# EAGLE library part CC3200 (library texas)
SOC WIFI SimpleLink Wi-Fi and Internet-of-Things Solution, a Single-Chip Wireless MCU
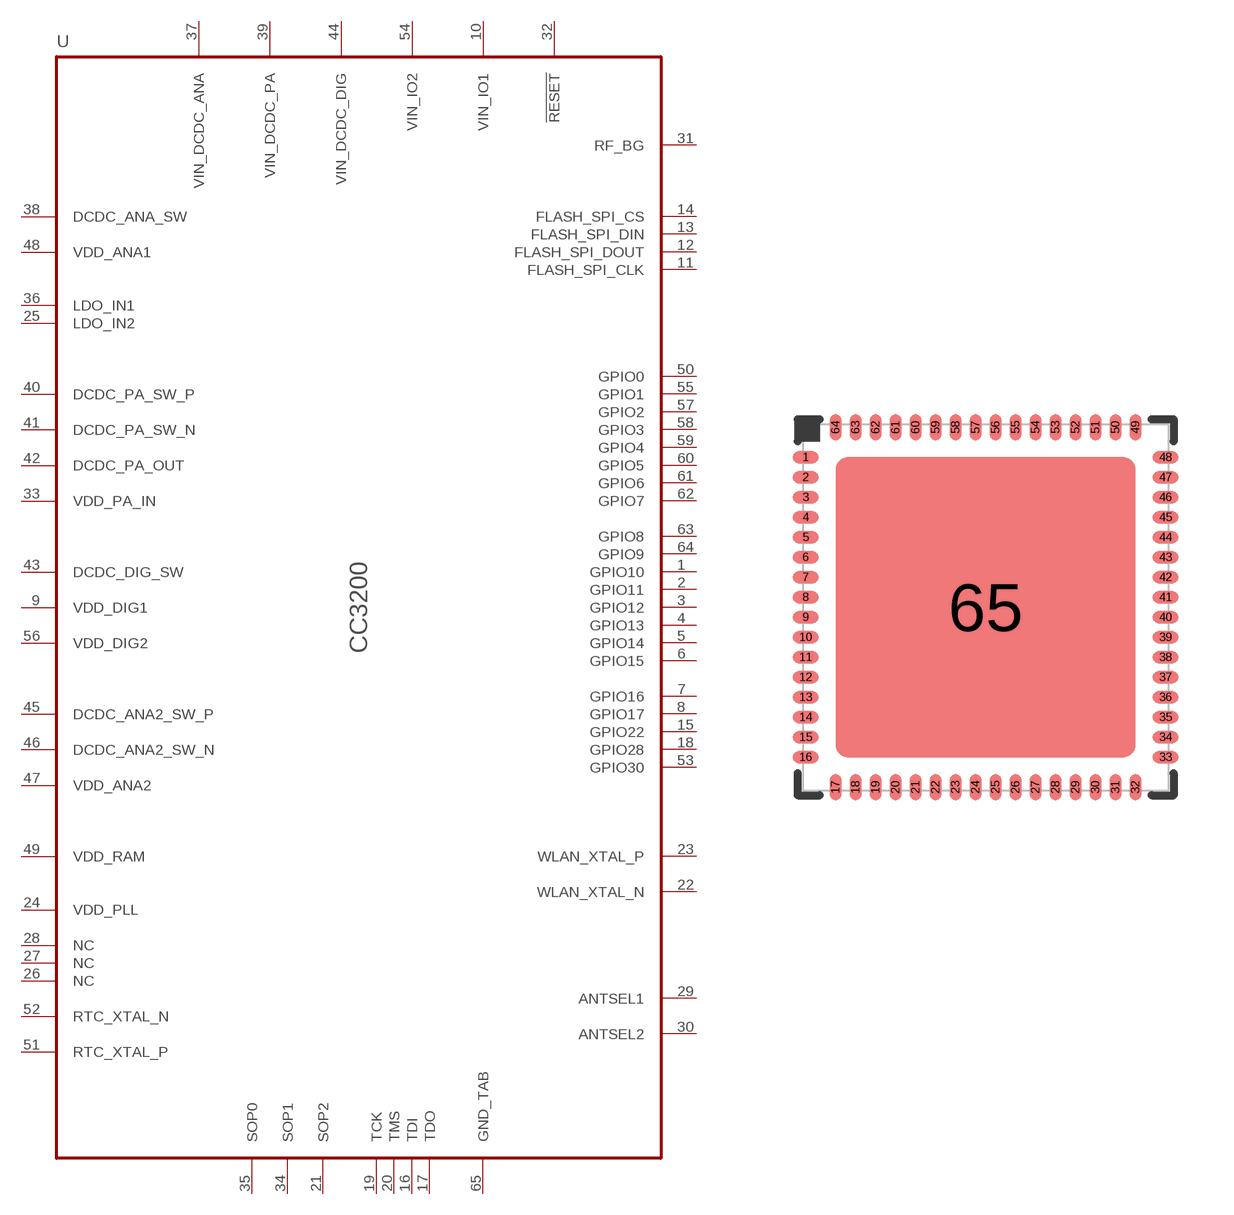
[diagram p111: symbol with the pads of VQFN64; footprint VQFN64]

Designator prefix U

## CC3200  [VQFN64]
1  GPIO10
2  GPIO11
3  GPIO12
4  GPIO13
5  GPIO14
6  GPIO15
7  GPIO16
8  GPIO17
9  VDD_DIG1  pas
10  VIN_IO1  in
11  FLASH_SPI_CLK  out
12  FLASH_SPI_DOUT  out
13  FLASH_SPI_DIN  in
14  FLASH_SPI_CS  out
15  GPIO22
16  TDI
17  TDO
18  GPIO28
19  TCK
20  TMS
21  SOP2  out
22  WLAN_XTAL_N
23  WLAN_XTAL_P
24  VDD_PLL  pas
25  LDO_IN2  in
26  NC  nc
27  NC  nc
28  NC  nc
29  ANTSEL1  out
30  ANTSEL2  out
31  RF_BG  pas
32  !RESET!  in
33  VDD_PA_IN  in
34  SOP1
35  SOP0
36  LDO_IN1  in
37  VIN_DCDC_ANA  in
38  DCDC_ANA_SW
39  VIN_DCDC_PA
40  DCDC_PA_SW_P  pas
41  DCDC_PA_SW_N  pas
42  DCDC_PA_OUT  out
43  DCDC_DIG_SW  pas
44  VIN_DCDC_DIG  in
45  DCDC_ANA2_SW_P  pas
46  DCDC_ANA2_SW_N  pas
47  VDD_ANA2  pas
48  VDD_ANA1  pas
49  VDD_RAM  pas
50  GPIO0
51  RTC_XTAL_P  pas
52  RTC_XTAL_N  pas
53  GPIO30
54  VIN_IO2  in
55  GPIO1
56  VDD_DIG2  hiz
57  GPIO2
58  GPIO3
59  GPIO4
60  GPIO5
61  GPIO6
62  GPIO7
63  GPIO8
64  GPIO9
65  GND_TAB  pas

## Footprint VQFN64 (pad centres in mm)
VQFN4 Quad Flat Package, 0.50 mm Pitch
smd 0.65 x 0.3: 1 -4.5,3.75; 2 -4.5,3.25; 3 -4.5,2.75; 4 -4.5,2.25; 5 -4.5,1.75; 6 -4.5,1.25; 7 -4.5,0.75; 8 -4.5,0.25; 9 -4.5,-0.25; 10 -4.5,-0.75; 11 -4.5,-1.25; 12 -4.5,-1.75; 13 -4.5,-2.25; 14 -4.5,-2.75; 15 -4.5,-3.25; 16 -4.5,-3.75; 33 4.5,-3.75; 34 4.5,-3.25; 35 4.5,-2.75; 36 4.5,-2.25; 37 4.5,-1.75; 38 4.5,-1.25; 39 4.5,-0.75; 40 4.5,-0.25; 41 4.5,0.25; 42 4.5,0.75; 43 4.5,1.25; 44 4.5,1.75; 45 4.5,2.25; 46 4.5,2.75; 47 4.5,3.25; 48 4.5,3.75
smd 0.3 x 0.65: 17 -3.75,-4.5; 18 -3.25,-4.5; 19 -2.75,-4.5; 20 -2.25,-4.5; 21 -1.75,-4.5; 22 -1.25,-4.5; 23 -0.75,-4.5; 24 -0.25,-4.5; 25 0.25,-4.5; 26 0.75,-4.5; 27 1.25,-4.5; 28 1.75,-4.5; 29 2.25,-4.5; 30 2.75,-4.5; 31 3.25,-4.5; 32 3.75,-4.5; 49 3.75,4.5; 50 3.25,4.5; 51 2.75,4.5; 52 2.25,4.5; 53 1.75,4.5; 54 1.25,4.5; 55 0.75,4.5; 56 0.25,4.5; 57 -0.25,4.5; 58 -0.75,4.5; 59 -1.25,4.5; 60 -1.75,4.5; 61 -2.25,4.5; 62 -2.75,4.5; 63 -3.25,4.5; 64 -3.75,4.5
smd 7.5 x 7.5: 65 0,0